# Altium footprint library 691 233 510 0xx.PcbLib: 2 footprints
Each footprint in its own frame and in the unit in brackets; x right, y up, seen from the top. Pads: shape width x height; smd on the part's side, far side on the other; paste and mask are expansions set on the pad; w line width, h text height; cw(c..) or ccw(c..) is an arc to the next point about the centre after c.
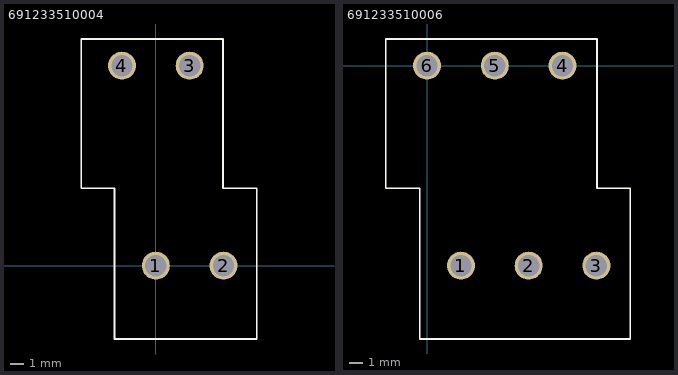
[diagram p0: the footprints below, top view; thin cyan lines are the x and y axes]

## 691233510004 [mm] "5,08mm - modular - 2 rows - Right - horizontal entry with rising cage clamp - 04p - h=31,5mm"
height 31.5
pads (4):
  round 2.1 hole 1.6: 1(0,0) 2(5.08,0) 3(2.54,15) 4(-2.54,15)
Top Overlay:
  lines w0.127: -5.6,5.8 -5.6,17 5.04,17 5.04,5.8 7.58,5.8 7.58,-5.5 -3.1,-5.5 -3.1,5.8 -5.6,5.8
3D body: height 31.51, standoff -4.44, extent -5.62,-5.5 7.58,17.1

## 691233510006 [mm] "5,08mm - modular - 2 rows - Right - horizontal entry with rising cage clamp - 06p - h=31,5mm"
height 31.5
pads (6):
  round 2.1 hole 1.6: 1(2.54,-15) 2(7.62,-15) 3(12.7,-15) 4(10.16,0) 5(5.08,0) 6(0,0)
Top Overlay:
  lines w0.127: -3.1,-9.2 -0.56,-9.2 -0.56,-20.5 15.24,-20.5 15.24,-9.2 12.74,-9.2 12.74,2 -3.1,2 -3.1,-9.2
3D body: height 31.51, standoff -4.44, extent -3.04,-20.5 15.24,2.1